# Altium footprint library TE 6-174518-1.PcbLib: 1 footprints
Each footprint in its own frame and in the unit in brackets; x right, y up, seen from the top. Pads: shape width x height; smd on the part's side, far side on the other; paste and mask are expansions set on the pad; w line width, h text height; cw(c..) or ccw(c..) is an arc to the next point about the centre after c.
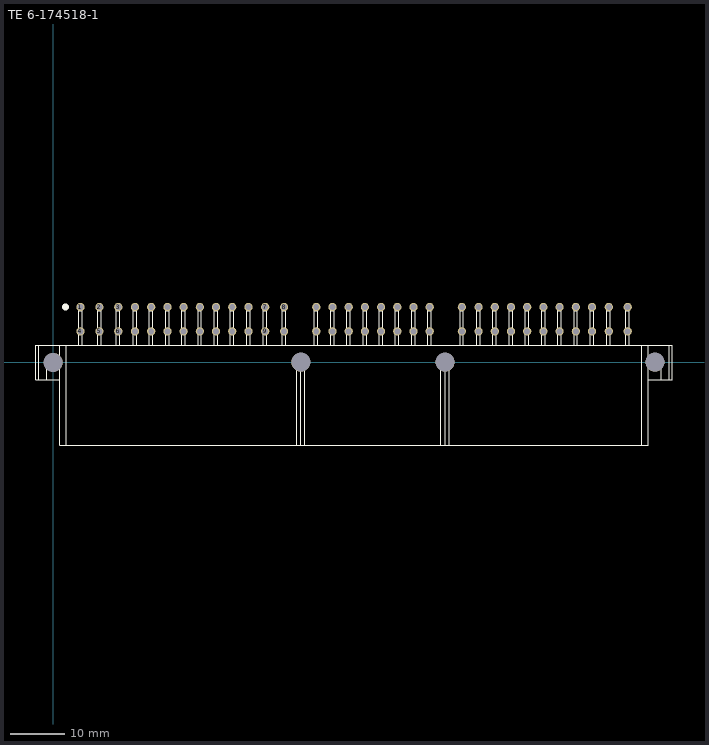
[diagram p0: the footprint, top view; thin cyan lines are the x and y axes]

## TE 6-174518-1 [mil]
pads (68):
  round 60 hole 43.31: 1(198.99,403.57) 2(336.79,403.57) 3(474.58,403.57) 4(198.99,226.41) 5(336.79,226.41) 6(474.58,226.41) 7(1545.45,403.57) 8(1683.24,403.57) 9(1545.45,226.41) 10(1683.24,226.41) 11(2978.52,403.57) 12(2978.52,226.41) 13(4049.39,403.57) 14(4187.18,403.57) 15(4049.39,226.41) 16(4187.18,226.41) 17(596.63,403.57) 18(714.74,403.57) 19(832.85,403.57) 20(950.96,403.57) 21(1069.07,403.57) 22(1187.18,403.57) 23(1305.29,403.57) 24(1423.4,403.57) 25(596.63,226.41) 26(714.74,226.41) 27(832.85,226.41) 28(950.96,226.41) 29(1069.07,226.41) 30(1187.18,226.41) 31(1305.29,226.41) 32(1423.4,226.41) 33(1917.5,403.57) 34(2035.61,403.57) 35(2153.72,403.57) 36(2271.83,403.57) 37(2389.94,403.57) 38(2508.05,403.57) 39(2626.16,403.57) 40(2744.27,403.57) 41(1917.5,226.41) 42(2035.61,226.41) 43(2153.72,226.41) 44(2271.83,226.41) 45(2389.94,226.41) 46(2508.05,226.41) 47(2626.16,226.41) 48(2744.27,226.41) 49(3100.57,403.57) 50(3218.68,403.57) 51(3336.79,403.57) 52(3454.9,403.57) 53(3573.01,403.57) 54(3691.12,403.57) 55(3809.23,403.57) 56(3927.34,403.57) 57(3100.57,226.41) 58(3218.68,226.41) 59(3336.79,226.41) 60(3454.9,226.41) 61(3573.01,226.41) 62(3691.12,226.41) 63(3809.23,226.41) 64(3927.34,226.41)
  round 137.8 hole 137.8: ""(0,0) ""(1805.29,2) ""(2856.47,2) ""(4386,2)
Top Overlay:
  drawing of 153 lines, arcs and shapes, not listed
3D body "c-6-174518-1-h1-3d.stp": height 889.76, standoff -153.54, extent -126.9,-600.53 4510.9,416